# Altium footprint library CONN.PcbLib: 11 footprints
Each footprint in its own frame and in the unit in brackets; x right, y up, seen from the top. Pads: shape width x height; smd on the part's side, far side on the other; paste and mask are expansions set on the pad; w line width, h text height; cw(c..) or ccw(c..) is an arc to the next point about the centre after c.
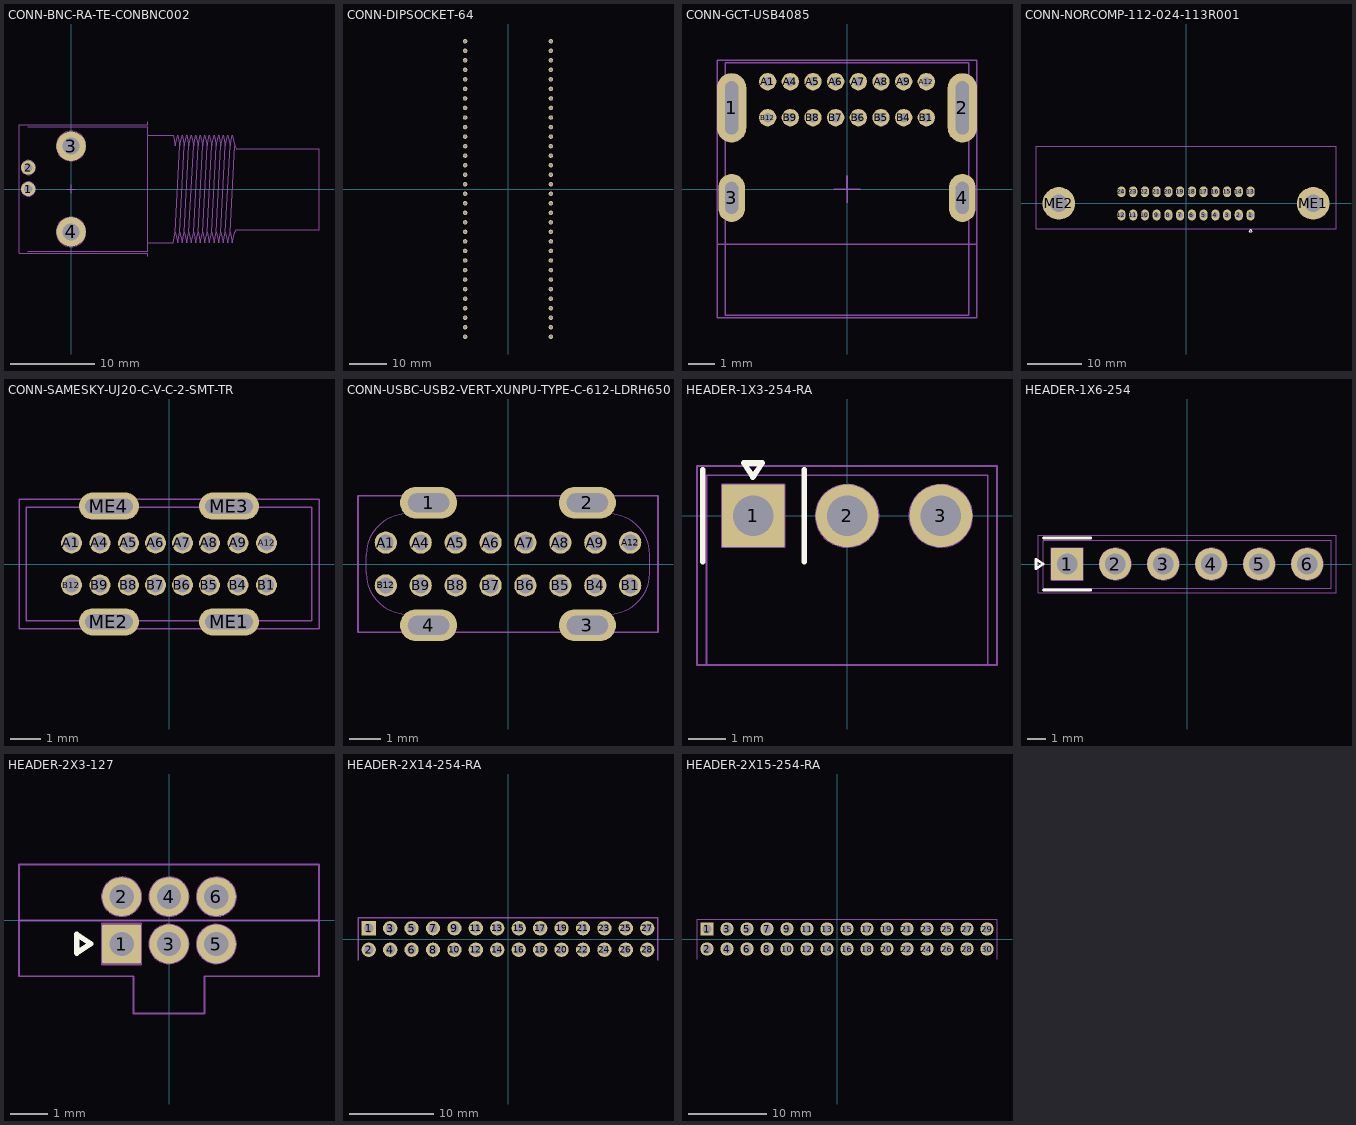
[diagram p0: the footprints below, top view; thin cyan lines are the x and y axes]

## CONN-BNC-RA-TE-CONBNC002 [mm]
pads (4):
  round 1.7 hole 1 paste-2539.97 mask-1: 1(-5.08,0) 2(-5.08,2.54)
  round 3.5 hole 2 paste-2539.97 mask-1: 3(0,5.08) 4(0,-5.08)
Top Courtyard:
  lines w0.05: -5.125,7.625 -6.175,7.625 ; -0.5,0 0,0 ; 0,-0.5 0,0 ; 0,0.5 0,0 ; 0.5,0 0,0 ; 9.075,-7.95 9.08,-7.95 9.08,-7.625 -6.175,-7.625 -6.175,7.625 ; 9.075,7.95 9.08,7.95 9.08,7.625 -6.175,7.625
Top Assembly:
  circle w0.05: c-5.08,0 r0.85
  circle w0.05: c-5.08,0 r0.531
  circle w0.05: c-5.08,2.54 r0.85
  circle w0.05: c-5.08,2.54 r0.555
  circle w0.05: c0,5.08 r1.75
  circle w0.05: c0,5.08 r1
  circle w0.05: c0,-5.08 r1.75
  circle w0.05: c0,-5.08 r1.025
  lines w0.05: -5.12,-7.375 9.08,-7.375 9.08,-6.35 ; -5.12,7.375 9.08,7.375 ; 9.08,-6.35 9.08,7.375 ; 9.08,-6.35 12.08,-6.35 12.35,-5.1 ; 9.08,7.375 9.08,6.35 12.08,6.35 12.35,5.1 12.62,6.35 12.89,5.1 ; 12.35,-5.1 12.89,5.1 ; 12.35,-5.1 12.62,-6.35 12.89,-5.1 ; 12.89,-5.1 13.431,5.1 ; 12.89,-5.1 13.16,-6.35 13.431,-5.1 ; 12.89,5.1 13.16,6.35 13.431,5.1 ; 13.431,-5.1 13.971,5.1 ; 13.431,-5.1 13.701,-6.35 13.971,-5.1 ; 13.431,5.1 13.701,6.35 13.971,5.1 ; 13.971,-5.1 14.511,5.1 ; 13.971,-5.1 14.241,-6.35 14.511,-5.1 ; 13.971,5.1 14.241,6.35 14.511,5.1 ; 14.511,-5.1 15.051,5.1 ; 14.511,-5.1 14.781,-6.35 15.051,-5.1 ; 14.511,5.1 14.781,6.35 15.051,5.1 ; 15.051,-5.1 15.592,5.1 ; 15.051,-5.1 15.321,-6.35 15.592,-5.1 ; 15.051,5.1 15.321,6.35 15.592,5.1 ; 15.592,-5.1 16.132,5.1 ; 15.592,-5.1 15.862,-6.35 16.132,-5.1 ; 15.592,5.1 15.862,6.35 16.132,5.1 ; 16.132,-5.1 16.672,5.1 ; 16.132,-5.1 16.402,-6.35 16.672,-5.1 ; 16.132,5.1 16.402,6.35 16.672,5.1 ; 16.672,-5.1 17.212,5.1 ; 16.672,-5.1 16.942,-6.35 17.212,-5.1 ; 16.672,5.1 16.942,6.35 17.212,5.1 ; 17.212,-5.1 17.753,5.1 ; 17.212,-5.1 17.483,-6.35 17.753,-5.1 ; 17.212,5.1 17.483,6.35 17.753,5.1 ; 17.753,-5.1 18.293,5.1 ; 17.753,-5.1 18.023,-6.35 18.293,-5.1 ; 17.753,5.1 18.023,6.35 18.293,5.1 ; 18.293,-5.1 18.833,5.1 ; 18.293,-5.1 18.563,-6.35 18.833,-5.1 ; 18.293,5.1 18.563,6.35 18.833,5.1 ; 18.833,-5.1 19.373,5.1 ; 18.833,-5.1 19.103,-6.35 19.373,-5.1 19.58,-4.8 29.38,-4.8 29.38,4.8 19.58,4.8 19.373,5.1 ; 18.833,5.1 19.103,6.35 19.373,5.1
3D body "CONBNC002.STEP": height 14.35, standoff -4.79, extent -5.82,-7.95 29.38,7.95

## CONN-DIPSOCKET-64 [mm]
pads (64):
  round 1.2 / inner round 1.8 / far side round 1.8 hole 0.8 paste-2539.97 mask+0.15: 1(-11.43,39.37) 2(-11.43,36.83) 3(-11.43,34.29) 4(-11.43,31.75) 5(-11.43,29.21) 6(-11.43,26.67) 7(-11.43,24.13) 8(-11.43,21.59) 9(-11.43,19.05) 10(-11.43,16.51) 11(-11.43,13.97) 12(-11.43,11.43) 13(-11.43,8.89) 14(-11.43,6.35) 15(-11.43,3.81) 16(-11.43,1.27) 17(-11.43,-1.27) 18(-11.43,-3.81) 19(-11.43,-6.35) 20(-11.43,-8.89) 21(-11.43,-11.43) 22(-11.43,-13.97) 23(-11.43,-16.51) 24(-11.43,-19.05) 25(-11.43,-21.59) 26(-11.43,-24.13) 27(-11.43,-26.67) 28(-11.43,-29.21) 29(-11.43,-31.75) 30(-11.43,-34.29) 31(-11.43,-36.83) 32(-11.43,-39.37) 33(11.43,-39.37) 34(11.43,-36.83) 35(11.43,-34.29) 36(11.43,-31.75) 37(11.43,-29.21) 38(11.43,-26.67) 39(11.43,-24.13) 40(11.43,-21.59) 41(11.43,-19.05) 42(11.43,-16.51) 43(11.43,-13.97) 44(11.43,-11.43) 45(11.43,-8.89) 46(11.43,-6.35) 47(11.43,-3.81) 48(11.43,-1.27) 49(11.43,1.27) 50(11.43,3.81) 51(11.43,6.35) 52(11.43,8.89) 53(11.43,11.43) 54(11.43,13.97) 55(11.43,16.51) 56(11.43,19.05) 57(11.43,21.59) 58(11.43,24.13) 59(11.43,26.67) 60(11.43,29.21) 61(11.43,31.75) 62(11.43,34.29) 63(11.43,36.83) 64(11.43,39.37)

## CONN-GCT-USB4085 [mm]
pads (20):
  rrect100% 1.1x2.6 hole 0.5 slot 2 at 90 deg paste-2539.97 mask+0.05: 1(-4.325,3.045) 2(4.325,3.045)
  rrect100% 1x1.8 hole 0.5 slot 1.2 at 90 deg paste-2539.97 mask+0.05: 3(-4.325,-0.335) 4(4.325,-0.335)
  round 0.65 hole 0.35 paste-2539.97 mask+0.05: A1(-2.975,4.025) A4(-2.125,4.025) A5(-1.275,4.025) A6(-0.425,4.025) A7(0.425,4.025) A8(1.275,4.025) A9(2.125,4.025) A12(2.975,4.025) B1(2.975,2.675) B4(2.125,2.675) B5(1.275,2.675) B6(0.425,2.675) B7(-0.425,2.675) B8(-1.275,2.675) B9(-2.125,2.675) B12(-2.975,2.675)
Top Courtyard:
  lines w0.05: -0.491,-0.009 0.009,-0.009 0.009,-0.509 ; 0,0.5 0,0 0.5,0 ; -4.875,-4.835 -4.875,4.835 4.875,4.835 4.875,-4.835 -4.875,-4.835
Bottom Courtyard:
  lines w0.05: -4.875,-4.835 -4.875,4.835 4.875,4.835 4.875,-4.835 -4.875,-4.835
Top Assembly:
  lines w0.05: -4.875,-2.075 4.875,-2.075 ; -4.575,-4.735 -4.575,4.735 4.575,4.735 4.575,-4.735 -4.575,-4.735
Mechanical 16:
  lines w0.05: -0.5,0 0.5,0 ; 0,-0.5 0,0.5
3D body "Conn_GCT_USB4085-GF-A_eec.STEP": height 0.25, standoff 0, extent -4.875,-4.835 4.875,4.835

## CONN-NORCOMP-112-024-113R001 [mm] "GPIB MALE RA"
pads (26):
  oval 1.5x2 hole 1 paste-2539.97 mask+0.05: 1(11.874,-2.146) 2(9.716,-2.146) 3(7.556,-2.146) 4(5.397,-2.146) 5(3.238,-2.146) 6(1.079,-2.146) 7(-1.079,-2.146) 8(-3.238,-2.146) 9(-5.397,-2.146) 10(-7.556,-2.146) 11(-9.716,-2.146) 12(-11.874,-2.146) 13(11.874,2.146) 14(9.716,2.146) 15(7.556,2.146) 16(5.397,2.146) 17(3.238,2.146) 18(1.079,2.146) 19(-1.079,2.146) 20(-3.238,2.146) 21(-5.397,2.146) 22(-7.556,2.146) 23(-9.716,2.146) 24(-11.874,2.146)
  round 6 hole 3.2 paste-2539.97 mask+0.254: ME1(23.406,0) ME2(-23.406,0)
Top Overlay:
  lines w0.15: 11.625,-5.25 12.125,-5.25 11.875,-4.75 11.625,-5.25
Top Courtyard:
  lines w0.05: -27.6,-4.65 27.6,-4.65 27.6,10.541 -27.6,10.541 -27.6,-4.65
  text "BOARD EDGE" at -4.29,9.26 h1
3D body "112-024-113R001.STEP": height 15.61, standoff -4.49, extent -27.356,-4.4 27.344,20

## CONN-SAMESKY-UJ20-C-V-C-2-SMT-TR [mm]
pads (20):
  round 0.7 hole 0.5 unplated mask+0.05: A1(-3.25,0.7) A4(-2.3,0.7) A5(-1.35,0.7) A6(-0.45,0.7) A7(0.45,0.7) A8(1.35,0.7) A9(2.3,0.7) A12(3.25,0.7) B1(3.25,-0.7) B4(2.3,-0.7) B5(1.35,-0.7) B6(0.45,-0.7) B7(-0.45,-0.7) B8(-1.35,-0.7) B9(-2.3,-0.7) B12(-3.25,-0.7)
  oval 2x0.9 hole 0.5 slot 1.6 at 0 deg unplated: ME1(2,-1.93) ME2(-2,-1.93) ME3(2,1.93) ME4(-2,1.93)
Top Assembly:
  lines w0.05: -4.75,-1.9 -4.75,1.9 4.75,1.9 4.75,-1.9 -4.75,-1.9
Mechanical 15:
  lines w0.05: -5,-2.15 5,-2.15 5,2.15 -5,2.15 -5,-2.15
3D body "step_temp.STEP": height 10.5, standoff -2, extent -4.75,-2.08 4.75,2.08

## CONN-USBC-USB2-VERT-XUNPU-TYPE-C-612-LDRH650 [mm] "CONN-USBC-USB2-VERT-XUNPU-TYPE-C-612-LDRH650"
pads (20):
  oval 1.8x1 hole 0.6 slot 1.3 at 0 deg: 1(-2.5,1.93) 2(2.5,1.93) 3(2.5,-1.93) 4(-2.5,-1.93)
  round 0.7 hole 0.5 mask+0.05: A1(-3.85,0.675) A4(-2.75,0.675) A5(-1.65,0.675) A6(-0.55,0.675) A7(0.55,0.675) A8(1.65,0.675) A9(2.75,0.675) A12(3.85,0.675) B1(3.85,-0.675) B4(2.75,-0.675) B5(1.65,-0.675) B6(0.55,-0.675) B7(-0.55,-0.675) B8(-1.65,-0.675) B9(-2.75,-0.675) B12(-3.85,-0.675)
Top Assembly:
  lines w0.02: -3.165,-1.58 cw(c-3.165,-0.28) -4.465,-0.28 -4.465,0.28 cw(c-3.165,0.28) -3.165,1.58 ; 3.165,-1.58 ccw(c3.165,-0.28) 4.465,-0.28 4.465,0.28 ccw(c3.165,0.28) 3.165,1.58
Mechanical 15:
  lines w0.05: -4.725,-2.15 -4.725,2.15 4.725,2.15 4.725,-2.15 -4.725,-2.15
3D body "Same_Sky_UJ20-C-V-G-SMT-P16-TR.step": height 6.41, standoff -0.94, extent -4.475,-2.3 4.465,2.3

## HEADER-1X3-254-RA [mm]
pads (3):
  rrect5% 1.7x1.7 hole 1.1 mask+0.05: 1(-2.54,0)
  round 1.7 hole 1.1 mask+0.05: 2(0,0) 3(2.54,0)
Top Overlay:
  lines w0.15: -3.915,-1.25 -3.915,0 -3.915,1.25 ; -1.165,-1.25 -1.165,0 -1.165,1.25 ; -2.8,1.43 -2.55,1.05 -2.3,1.43 -2.8,1.43
Top Courtyard:
  lines w0.05: -4.065,-4.04 4.06,-4.04 4.06,1.35 -4.065,1.35 -4.065,-4.04
Top Assembly:
  circle w0.05: c-2.54,0 r0.551
  circle w0.05: c0,0 r0.85
  circle w0.05: c0,0 r0.535
  circle w0.05: c2.54,0 r0.85
  circle w0.05: c2.54,0 r0.535
  lines w0.05: -3.81,-4.04 -3.81,1.1 3.81,1.1 3.81,-4.04 -3.81,-4.04 ; -3.39,-0.85 -3.39,0.85 -2.54,0.85 -1.69,0.85 -1.69,-0.85 -3.39,-0.85
3D body "61300311021_Download_STP_61300311021_rev1.stp": height 2.55, standoff -2.99, extent -3.81,-10.04 3.81,0.32

## HEADER-1X6-254 [mm]
pads (6):
  rrect5% 1.7x1.7 hole 1.1 mask+0.05: 1(-6.35,0)
  round 1.7 hole 1.1 mask+0.05: 2(-3.81,0) 3(-1.27,0) 4(1.27,0) 5(3.81,0) 6(6.35,0)
Top Overlay:
  lines w0.15: -7.6,-1.375 -6.35,-1.375 -5.1,-1.375 ; -7.6,1.375 -6.35,1.375 -5.1,1.375 ; -8,-0.25 -8,0.25 -7.62,0 -8,-0.25
Top Courtyard:
  lines w0.05: -7.875,-1.525 -7.875,1.525 7.875,1.525 7.875,-1.525 -7.875,-1.525
Top Assembly:
  circle w0.05: c6.35,0 r0.535
  circle w0.05: c6.35,0 r0.85
  circle w0.05: c3.81,0 r0.535
  circle w0.05: c3.81,0 r0.85
  circle w0.05: c1.27,0 r0.535
  circle w0.05: c1.27,0 r0.85
  circle w0.05: c-1.27,0 r0.535
  circle w0.05: c-1.27,0 r0.85
  circle w0.05: c-3.81,0 r0.535
  circle w0.05: c-3.81,0 r0.85
  circle w0.05: c-6.35,0 r0.551
  lines w0.05: -7.62,-1.27 7.62,-1.27 7.62,1.27 -7.62,1.27 -7.62,-1.27 ; -7.2,-0.85 -5.5,-0.85 -5.5,0.85 -6.35,0.85 -7.2,0.85 -7.2,-0.85
3D body "61300611121_Download_STP_61300611121_rev1.stp": height 8.55, standoff -2.99, extent -7.62,-1.27 7.62,1.27

## HEADER-2X3-127 [mm]
pads (6):
  rrect9% 1.05x1.05 hole 0.65 mask+0.05: 1(-1.27,-0.635)
  round 1.05 hole 0.65 mask+0.05: 2(-1.27,0.635) 3(0,-0.635) 4(0,0.635) 5(1.27,-0.635) 6(1.27,0.635)
Top Overlay:
  lines w0.15: -2.48,-0.875 -2.48,-0.375 -2.1,-0.625 -2.48,-0.875
Top Courtyard:
  lines w0.05: -4.025,0 -4.025,-1.5 -0.95,-1.5 -0.95,-2.5 0.95,-2.5 0.95,-1.5 4.025,-1.5 4.025,0 ; -4.025,0 0,0 4.025,0 ; -4.025,0 -4.025,1.5 4.025,1.5 4.025,0
Top Assembly:
  circle w0.05: c0,-0.635 r0.525
  circle w0.05: c1.27,-0.635 r0.525
  circle w0.05: c1.27,0.635 r0.525
  circle w0.05: c0,0.635 r0.526
  circle w0.05: c-1.27,0.635 r0.526
  circle w0.05: c-1.27,0.635 r0.32
  circle w0.05: c-1.27,-0.635 r0.32
  circle w0.05: c0,-0.635 r0.32
  circle w0.05: c0,0.635 r0.32
  circle w0.05: c1.27,0.635 r0.32
  circle w0.05: c1.27,-0.635 r0.32
  lines w0.05: -1.795,-1.185 -1.795,-0.085 -1.27,-0.085 -0.745,-0.085 -0.745,-1.185 -1.795,-1.185
3D body "HPH2-A-06-UA.STEP": height 3.81, standoff -2.49, extent -1.905,-1.725 1.905,1.725

## HEADER-2X14-254-RA [mm]
pads (28):
  rrect5% 1.7x1.7 hole 1.1 mask+0.05: 1(-16.51,1.27)
  round 1.7 hole 1.1 mask+0.05: 2(-16.51,-1.27) 3(-13.97,1.27) 4(-13.97,-1.27) 5(-11.43,1.27) 6(-11.43,-1.27) 7(-8.89,1.27) 8(-8.89,-1.27) 9(-6.35,1.27) 10(-6.35,-1.27) 11(-3.81,1.27) 12(-3.81,-1.27) 13(-1.27,1.27) 14(-1.27,-1.27) 15(1.27,1.27) 16(1.27,-1.27) 17(3.81,1.27) 18(3.81,-1.27) 19(6.35,1.27) 20(6.35,-1.27) 21(8.89,1.27) 22(8.89,-1.27) 23(11.43,1.27) 24(11.43,-1.27) 25(13.97,1.27) 26(13.97,-1.27) 27(16.51,1.27) 28(16.51,-1.27)
Top Assembly:
  lines w0.15: -17.78,-2.54 -17.78,2.54 17.78,2.54 17.78,-2.54

## HEADER-2X15-254-RA [mm]
pads (30):
  rrect5% 1.7x1.7 hole 1.1 mask+0.05: 1(-16.51,1.27)
  round 1.7 hole 1.1 mask+0.05: 2(-16.51,-1.27) 3(-13.97,1.27) 4(-13.97,-1.27) 5(-11.43,1.27) 6(-11.43,-1.27) 7(-8.89,1.27) 8(-8.89,-1.27) 9(-6.35,1.27) 10(-6.35,-1.27) 11(-3.81,1.27) 12(-3.81,-1.27) 13(-1.27,1.27) 14(-1.27,-1.27) 15(1.27,1.27) 16(1.27,-1.27) 17(3.81,1.27) 18(3.81,-1.27) 19(6.35,1.27) 20(6.35,-1.27) 21(8.89,1.27) 22(8.89,-1.27) 23(11.43,1.27) 24(11.43,-1.27) 25(13.97,1.27) 26(13.97,-1.27) 27(16.51,1.27) 28(16.51,-1.27) 29(19.05,1.27) 30(19.05,-1.27)
Top Assembly:
  lines w0.15: -17.78,-2.54 -17.78,2.54 20.32,2.54 20.32,-2.54